# Altium footprint library RGB Led.PcbLib: 2 footprints
Each footprint in its own frame and in the unit in brackets; x right, y up, seen from the top. Pads: shape width x height; smd on the part's side, far side on the other; paste and mask are expansions set on the pad; w line width, h text height; cw(c..) or ccw(c..) is an arc to the next point about the centre after c.
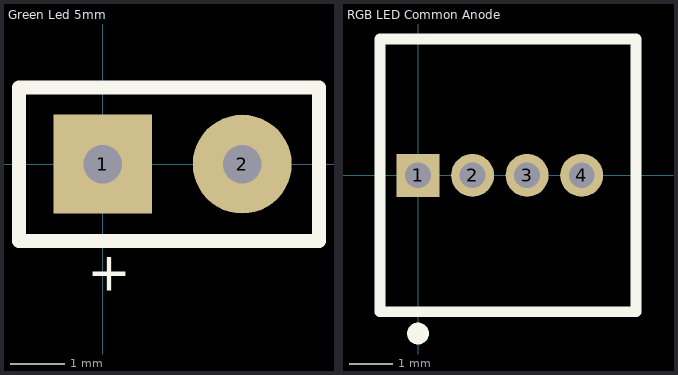
[diagram p0: the footprints below, top view; thin cyan lines are the x and y axes]

## Green Led 5mm [mm]
pads (2):
  rect 1.8x1.8 hole 0.7: 1(0,0)
  round 1.8 hole 0.7: 2(2.54,0)
Top Overlay:
  lines w0.254: -1.524,-1.397 3.937,-1.397 3.937,1.397 -1.524,1.397 -1.524,-1.397
  text "+" at -0.281,-2.303 h0.7
3D body "WP7113SGD.STEP": height 12.1, standoff -23.5, extent -1.679,-2.95 3.755,2.95

## RGB LED Common Anode [mm]
pads (4):
  rect 1x1 hole 0.6: 1(0,0)
  round 1 hole 0.6: 2(1.27,0) 3(2.54,0) 4(3.81,0)
Top Overlay:
  circle w0.254: c0,-3.683 r0.127
  lines w0.254: -0.889,-3.175 5.08,-3.175 5.08,3.175 -0.889,3.175 -0.889,-3.175
3D body "QBL8RGB60D0-2897--3DModel-STEP-269445.STEP": height 13.65, standoff -22, extent -0.5,-2.925 4.809,2.925